# EAGLE library part R820T (library Rafael Micro)
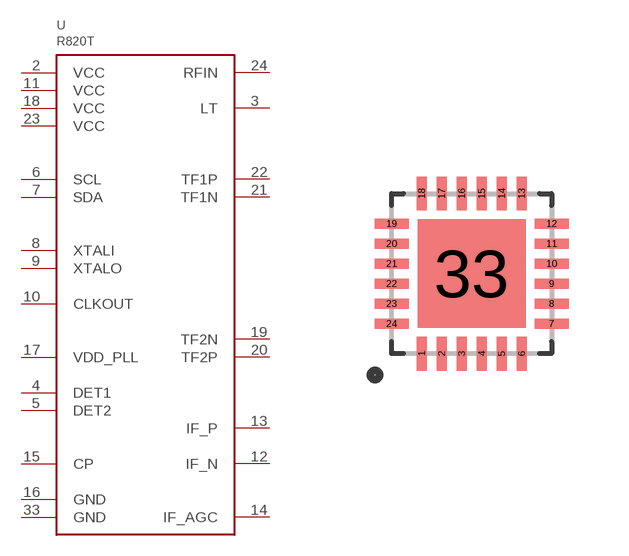
[diagram p0: symbol with the pads of QFN24; footprint QFN24]

Designator prefix U

## R820T, R820T2  [QFN24]
2  VCC
3  LT
4  DET1
5  DET2
6  SCL
7  SDA
8  XTALI
9  XTALO
10  CLKOUT
11  VCC
12  IF_N
13  IF_P
14  IF_AGC
15  CP
16  GND
17  VDD_PLL
18  VCC
19  TF2N
20  TF2P
21  TF1N
22  TF1P
23  VCC
24  RFIN
33  GND

## Footprint QFN24 (pad centres in mm)
smd 0.25 x 0.85: 1 -1.25,-2; 2 -0.75,-2; 3 -0.25,-2; 4 0.25,-2; 5 0.75,-2; 6 1.25,-2; 13 1.25,2; 14 0.75,2; 15 0.25,2; 16 -0.25,2; 17 -0.75,2; 18 -1.25,2
smd 0.85 x 0.25: 7 2,-1.25; 8 2,-0.75; 9 2,-0.25; 10 2,0.25; 11 2,0.75; 12 2,1.25; 19 -2,1.25; 20 -2,0.75; 21 -2,0.25; 22 -2,-0.25; 23 -2,-0.75; 24 -2,-1.25
smd 2.7 x 2.7: 33 0,0